# EAGLE library part SIO (library TF_Atari)
ATARI 400/800/600XL/800XL/1200XL/1400XL/1450XLD SIO Buchse (C)04/2008 mega-hz
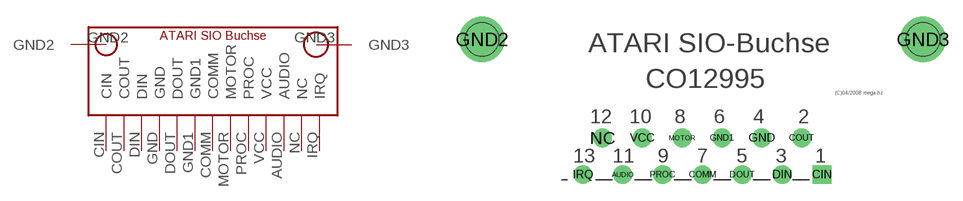
[diagram p5: symbol with the pads of SIO; footprint SIO]

Designator prefix -

## SIO  [SIO]
AUDIO  AUDIO
CIN  CIN
COMM  COMM
COUT  COUT
DIN  DIN
DOUT  DOUT
GND  GND
GND1  GND1
GND2  GND2
GND3  GND3
IRQ  IRQ
MOTOR  MOTOR
NC  NC
PROC  PROC
VCC  VCC

## Footprint SIO (pad centres in mm)
drill 0.9 pad 1.676: AUDIO -7.08,-4.54; COMM 0,-4.54; COUT 8.81,-1.27; DIN 7.08,-4.54; DOUT 3.54,-4.54; GND 5.27,-1.27; GND1 1.73,-1.27; IRQ -10.62,-4.54; MOTOR -1.81,-1.27; NC -8.89,-1.27; PROC -3.54,-4.54; VCC -5.35,-1.27
drill 0.9 pad 1.676 square: CIN 10.62,-4.54
drill 3 pad 4: GND2 -19.595,7.5; GND3 19.595,7.5
hole 3 at -19.595,7.5
hole 3 at 19.595,7.5